# Altium schematic symbol library Inverting buck boost.SchLib: 104 symbols (part 1 of 9)
Pins are listed as number, name and electrical type; pins without a type are passive.

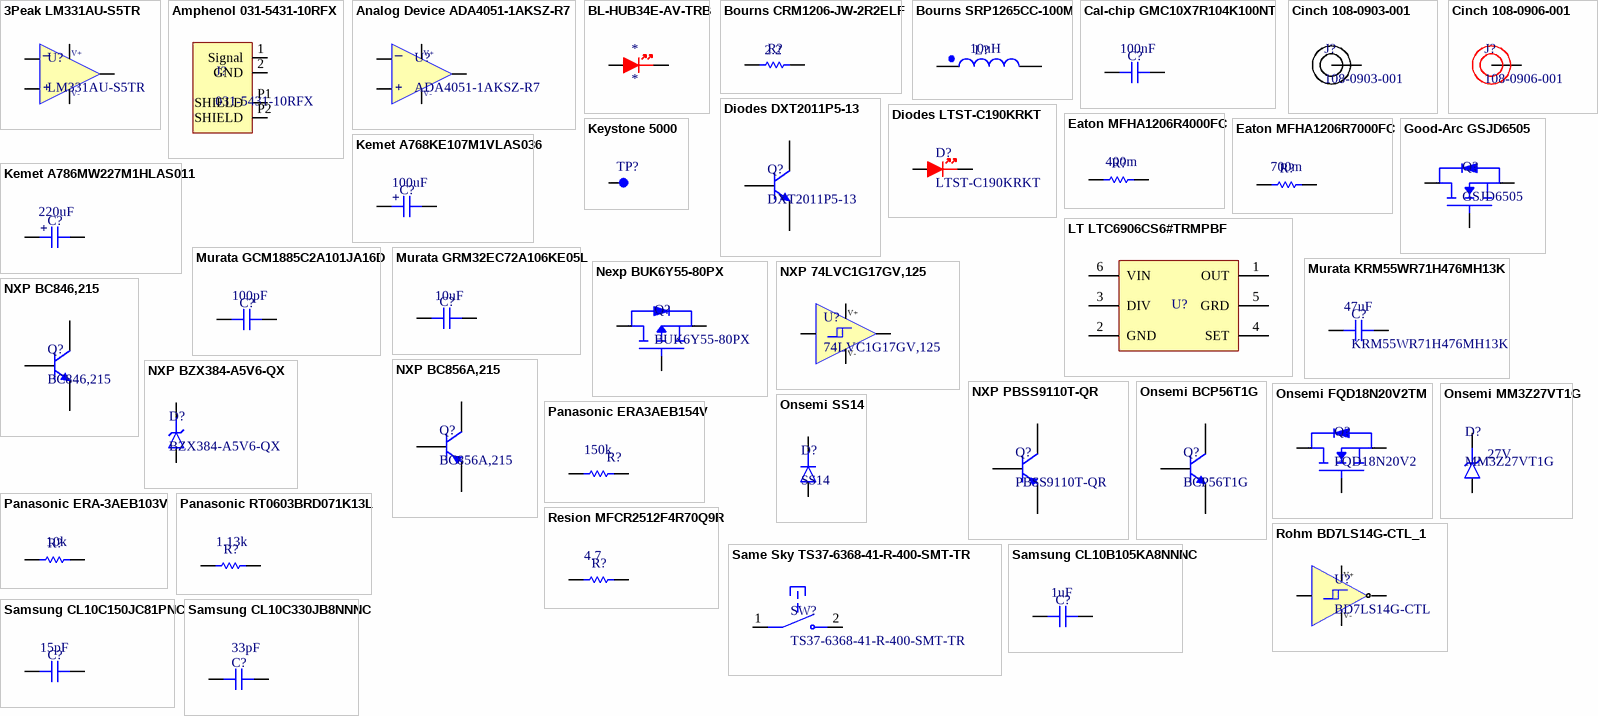
[diagram p0: symbols 3Peak LM331AU-S5TR to Samsung CL10C330JB8NNNC]

## 3Peak LM331AU-S5TR
designator U?, comment LM331AU-S5TR
150¦ÌA 500ns Open Collector, Rail to Rail 20mA 1 2.5V ¡À18V, 36V 6mV@ 5V 4nA@ 5V SOT-23-5 , 2.9mm; Manufacturer: 3Peak; Input Bias Current: 1nA; Input Offset Voltage (Vos): 6mV; Max Supply Current: 300µA; Max Supply Voltage: 42V; Number of Circuits: 1; Response Time: 2µs; Supplier: DigiKey; Supplier Part Number: 5503-LM331AU-S5TRCT-ND; Manufacturer Part Number: LM331AU-S5TR; RoHS: Compliant; Category: Amplifiers - Op Amps, Buffer, Instrumentation; Stock: 2199; Pricing: 1=0,1, 10=0,069, 25=0,06, 100=0,0505, 250=0,04588, 500=0,0431, 1000=0,04081 (USD); Case/Package: LSSOP; Export Control Classification Number (ECCN) Code: EAR99; Height - Seated (Max): 1.25mm; Harmonized Tariff Schedule (HTS) Code: 8542.39.00.60; Length: 2.92mm; Max Operating Temperature: 125°C; Min Operating Temperature: -40°C; Number of Terminals: 5; Operating Supply Voltage: 5V; REACH SVHC: Yes; Terminal Pitch: 950µm; Width: 1.61mm; ComponentLink1URL: https://datasheet.octopart.com:443/LM331AU-S5TR-3Peak-datasheet-182190405.pdf?src-supplier=IHS; ComponentLink1Description: https://datasheet.octopart.com:443/LM331AU-S5TR-3Peak-datasheet-182190405.pdf?src-supplier=IHS
footprint 5-Lead SOT-23
pins: 1 IN-, 2 V-, 3 IN+, 4 OUT, 5 V+
text: _; +

## Amphenol 031-5431-10RFX
designator J?, comment 031-5431-10RFX
RF BNC Connector, Female, Panel Mount, Board And Panel Mount, Solder Terminal, Jack; Manufacturer: Amphenol RF; Body Material: Zinc; Body Plating: Nickel; Connector Type: Receptacle; Dielectric Material: Polypropylene; Frequency: 4GHz; Impedance: 50Ω; Insertion Loss (dB): 0.2dB; Clock Frequency: 1GHz; Polarity: Standard; Voltage Rating: 500V; Supplier: RS; Supplier Part Number: 1440890; Manufacturer Part Number: 031-5431-10RFX; RoHS: Compliant; Category: RF / Coaxial Connectors; Stock: 106; Pricing: 2=3,93, 20=3,77, 40=3,46, 100=3,145, 200=2,985 (EUR); Contact Material: Bronze, Copper; Contact Plating: Gold; Export Control Classification Number (ECCN) Code: EAR99; Fastening Type: Bayonet; Gender: Female; Housing Color: White; Harmonized Tariff Schedule (HTS) Code: 8536.69.40.10; Introduction Date: 2000-11-01; Lifecycle Status: Production; Max Operating Temperature: 85°C; Min Operating Temperature: -55°C; Mounting Technology: Bulkhead, PCB, Panel, Through Hole; Orientation: Right Angle; Plating: Nickel; Radiation Hardening: No; REACH SVHC: Unknown; Schedule B: 8536695050, 8536695050|8536695050, 8536695050|8536695050|8536695050, 8536695050|8536695050|8536695050|8536695050; Termination: Solder; ComponentLink1URL: https://datasheet.octopart.com:443/031-5431-10RFX-Amphenol-RF-datasheet-178912673.pdf?src-supplier=Amphenol+RF; ComponentLink1Description: https://datasheet.octopart.com:443/031-5431-10RFX-Amphenol-RF-datasheet-178912673.pdf?src-supplier=Amphenol+RF; ComponentLink2URL: https://datasheet.octopart.com:443/031-5431-10RFX-Amphenol-RF-datasheet-69052.pdf?src-supplier=RS+(Formerly+Allied+Electronics); ComponentLink2Description: https://datasheet.octopart.com:443/031-5431-10RFX-Amphenol-RF-datasheet-69052.pdf?src-supplier=RS+(Formerly+Allied+Electronics); ComponentLink3URL: https://datasheet.octopart.com:443/031-5431-10RFX-Amphenol-RF-datasheet-120229763.pdf?src-supplier=TME; ComponentLink3Description: https://datasheet.octopart.com:443/031-5431-10RFX-Amphenol-RF-datasheet-120229763.pdf?src-supplier=TME; ComponentLink4URL: https://datasheet.octopart.com:443/31-5431-10RFX-Amphenol-datasheet-110605730.pdf?src-supplier=IHS; ComponentLink4Description: https://datasheet.octopart.com:443/31-5431-10RFX-Amphenol-datasheet-110605730.pdf?src-supplier=IHS; ComponentLink5URL: https://datasheet.octopart.com:443/031-5431-10RFX-Amphenol-RF-datasheet-14873985.pdf?src-supplier=Electro+Sonic; ComponentLink5Description: https://datasheet.octopart.com:443/031-5431-10RFX-Amphenol-RF-datasheet-14873985.pdf?src-supplier=Electro+Sonic; ComponentLink6URL: https://datasheet.octopart.com:443/031-5431-10RFX-Amphenol-RF-datasheet-11551920.pdf?src-supplier=Electro+Sonic; ComponentLink6Description: https://datasheet.octopart.com:443/031-5431-10RFX-Amphenol-RF-datasheet-11551920.pdf?src-supplier=Electro+Sonic; ComponentLink7URL: https://datasheet.octopart.com:443/031-5431-10RFX-Amphenol-RF-datasheet-10025382.pdf?src-supplier=Newark; ComponentLink7Description: https://datasheet.octopart.com:443/031-5431-10RFX-Amphenol-RF-datasheet-10025382.pdf?src-supplier=Newark; ComponentLink8URL: https://datasheet.octopart.com:443/031-5431-10RFX-Amphenol-RF-datasheet-181430700.pdf?src-supplier=JRH+Electronics; ComponentLink8Description: https://datasheet.octopart.com:443/031-5431-10RFX-Amphenol-RF-datasheet-181430700.pdf?src-supplier=JRH+Electronics; ComponentLink9URL: https://datasheet.octopart.com:443/031-5431-10RFX.-Amphenol-RF-datasheet-5334842.pdf?src-supplier=element14+APAC; ComponentLink9Description: https://datasheet.octopart.com:443/031-5431-10RFX.-Amphenol-RF-datasheet-5334842.pdf?src-supplier=element14+APAC
footprint 031-5431-10RFX BNC
pins: 1 Signal, 2 GND, P1 SHIELD, P2 SHIELD

## Analog Device ADA4051-1AKSZ-R7
designator U?, comment ADA4051-1AKSZ-R7
Op Amp Single Micropower Amplifier R-R I/O 5.5V 5-Pin SC-70 T/R; Manufacturer: Analog Devices; Manufacturer Lifecycle Status: PRODUCTION; Bandwidth: 125kHz; Common Mode Rejection Ratio: 135dB; Input Bias Current: 20pA; Input Capacitance: 5pF; Input Offset Voltage (Vos): 17µV; Min Supply Voltage: 1.8V; Number of Amplifiers: 1; Operating Supply Current: 15µA; Output Current per Channel: 15mA; Settling Time: 110µs; Slew Rate: 0.06V/µs; Supplier: Farnell; Supplier Part Number: ADA4051-1AKSZ-R7; Manufacturer Part Number: ADA4051-1AKSZ-R7; RoHS: Compliant; Category: Amplifiers - Op Amps, Buffer, Instrumentation; Stock: 2998; Pricing: 1=2,64, 10=1,99, 25=1,82, 100=1,64, 250=1,55, 500=1,51 (GBP); Case/Package: SC; Contact Plating: Gold; Gain Bandwidth Product: 125kHz; Lead Free: Contains Lead; Lifecycle Status: Production; Max Operating Temperature: 125°C; Max Supply Voltage: 5.5V; Min Operating Temperature: -40°C; Number of Channels: 1; Number of Circuits: 1; Number of Elements: 1; Pins: 5; Power Supply Rejection Ratio (PSRR): 135dB; Quiescent Current: 15µA; Radiation Hardening: No; REACH SVHC: No; Schedule B: 8542330000, 8542330000|8542330000|8542330000|8542330000|8542330000; Voltage Gain: 135dB; ComponentLink1URL: https://datasheet.octopart.com:443/ADA4051-1AKSZ-R7-Analog-Devices-datasheet-8791794.pdf?src-supplier=Upverter; ComponentLink1Description: https://datasheet.octopart.com:443/ADA4051-1AKSZ-R7-Analog-Devices-datasheet-8791794.pdf?src-supplier=Upverter; ComponentLink2URL: https://octopart.com:443/opatz8j6/c1?t=rJJSgKe-ixBsgHruP_dMyvdcYWh8VxYktSnzxyfwgHDbKLKC92zca7cigscwZEaM0lo2HiNT3MH3wQ-2LX-M9Az7IcjdZjIeVxf5AT0hvHfOIPgFhdUnJF0J1I10w6WCzRwC901KpDeY74zyeRPGvO5LAbMw0CobDR2CsodOcFkNt9MQH1-RFuewA9IsU1jv6IjapC8nD5KlUayfNQf8mV_EJh40J36P7WJ_ySqdKCrG-lzOgQPC2h9lNvby1AUvUdXqNeCc0od4Gope5gYX_VswtoiygC4NIFcVhX65H1SStPGZ_82TzO4o&src-supplier=Analog+Devices; ComponentLink2Description: https://octopart.com:443/opatz8j6/c1?t=rJJSgKe-ixBsgHruP_dMyvdcYWh8VxYktSnzxyfwgHDbKLKC92zca7cigscwZEaM0lo2HiNT3MH3wQ-2LX-M9Az7IcjdZjIeVxf5AT0hvHfOIPgFhdUnJF0J1I10w6WCzRwC901KpDeY74zyeRPGvO5LAbMw0CobDR2CsodOcFkNt9MQH1-RFuewA9IsU1jv6IjapC8nD5KlUayfNQf8mV_EJh40J36P7WJ_ySqdKCrG-lzOgQPC2h9lNvby1AUvUdXqNeCc0od4Gope5gYX_VswtoiygC4NIFcVhX65H1SStPGZ_82TzO4o&src-supplier=Analog+Devices; ComponentLink3URL: https://datasheet.octopart.com:443/ADA4051-1AKSZ-R7-Analog-Devices-datasheet-10548184.pdf?src-supplier=Analog+Devices; ComponentLink3Description: https://datasheet.octopart.com:443/ADA4051-1AKSZ-R7-Analog-Devices-datasheet-10548184.pdf?src-supplier=Analog+Devices; ComponentLink4URL: https://datasheet.octopart.com:443/ADA4051-1AKSZ-R7-Analog-Devices-datasheet-62284931.pdf?src-supplier=Augswan; ComponentLink4Description: https://datasheet.octopart.com:443/ADA4051-1AKSZ-R7-Analog-Devices-datasheet-62284931.pdf?src-supplier=Augswan; ComponentLink5URL: https://datasheet.octopart.com:443/ADA4051-1AKSZ-R7-Analog-Devices-datasheet-165826941.pdf?src-supplier=element14+APAC; ComponentLink5Description: https://datasheet.octopart.com:443/ADA4051-1AKSZ-R7-Analog-Devices-datasheet-165826941.pdf?src-supplier=element14+APAC; ComponentLink6URL: http://sigma.octopart.com:80/conflict_mineral_statement/Analog-Devices-company-33.pdf?src-supplier=Compliance+Statements; ComponentLink6Description: http://sigma.octopart.com:80/conflict_mineral_statement/Analog-Devices-company-33.pdf?src-supplier=Compliance+Statements; ComponentLink7URL: https://octopart.com:443/opatz8j6/c1?t=0GX_hfKgSMIsbNrE8b34QJAb0CCNZ6_ezWHTaaiZJR_aWRrHXcXZK1igBECXO0xCZYVK5GrASg4C3zYQqAJSviM5nON9Ij1twWqpeXzFcwgJ4LC7jixMVPYygbP3XV2mr0ayiR9F56Bbj5JLA-7nmjt3c8viBDnSCKzac_WhTH3deLBC3ZmpMauG607RU4KYk36P2kmz-5XzFW-Eu3BtbhjKoDF2JZMeJ3TmcpbQkdN-83rE9pioA5eI-Um-4VwgjZtxOMdpSRa48wH-6RAMWxbPWrNxxsdm-7adIByWP0Rbww03xyshOf5b&src-supplier=Compliance+Statements; ComponentLink7Description: https://octopart.com:443/opatz8j6/c1?t=0GX_hfKgSMIsbNrE8b34QJAb0CCNZ6_ezWHTaaiZJR_aWRrHXcXZK1igBECXO0xCZYVK5GrASg4C3zYQqAJSviM5nON9Ij1twWqpeXzFcwgJ4LC7jixMVPYygbP3XV2mr0ayiR9F56Bbj5JLA-7nmjt3c8viBDnSCKzac_WhTH3deLBC3ZmpMauG607RU4KYk36P2kmz-5XzFW-Eu3BtbhjKoDF2JZMeJ3TmcpbQkdN-83rE9pioA5eI-Um-4VwgjZtxOMdpSRa48wH-6RAMWxbPWrNxxsdm-7adIByWP0Rbww03xyshOf5b&src-supplier=Compliance+Statements
footprint 5-Lead SOT-23
pins: 1 IN-, 2 V-, 3 IN+, 4 OUT, 5 V+
text: _; +

## BL-HUB34E-AV-TRB
designator *
Single Color LED, Super Red, Water Clear, 1.7mm; Manufacturer: American Bright; Manufacturer Part Number: BL-HUB34E-AV-TRB; Forward Current: 20mA; Forward Voltage: 2.6V; Luminous Intensity: 28mcd; Number of Circuits: 1; Peak Wavelength: 645nm; Reverse Voltage: 5V; Shape: Rectangular; Viewing Angle: 130°; Supplier: DigiKey; Supplier Part Number: BL-HUB34E-AV-TRBTR-ND; Category: LEDs; Stock: 24000; Pricing: 3000=0,06676, 6000=0,06227, 9000=0,05996, 15000=0,05736, 21000=0,0558 (USD); Height: 1mm; Harmonized Tariff Schedule (HTS) Code: 8541.40.20.00; Introduction Date: 2012-02-13; Max Operating Temperature: 85°C; Min Operating Temperature: -40°C; Mounting Technology: Surface Mount; Number of Terminals: 2; Terminal Pitch: 1.8mm; ComponentLink1URL: https://datasheet.octopart.com:443/BL-HUB34E-AV-TRB-American-Bright-Optoelectronics-datasheet-182236931.pdf?src-supplier=IHS; ComponentLink1Description: https://datasheet.octopart.com:443/BL-HUB34E-AV-TRB-American-Bright-Optoelectronics-datasheet-182236931.pdf?src-supplier=IHS; ComponentLink2URL: https://datasheet.octopart.com:443/BL-HUB34E-AV-TRB-American-Bright-Optoelectronics-datasheet-155823570.pdf?src-supplier=Electro+Sonic; ComponentLink2Description: https://datasheet.octopart.com:443/BL-HUB34E-AV-TRB-American-Bright-Optoelectronics-datasheet-155823570.pdf?src-supplier=Electro+Sonic
pins: A, K

## Bourns CRM1206-JW-2R2ELF
designator R?, comment Resistance: 2.2  (hidden comment: CRM1206-JW-2R2ELF)
Res Thick Film 1206 2.2 Ohm 5% 0.5W(1/2W) ±200ppm/C Pad SMD T/R; Manufacturer: Bourns; Max Power Dissipation: 500mW; Temperature Coefficient: 200ppm/°C; Voltage Rating: 200V; Supplier: RS; Supplier Part Number: 630160; Manufacturer Part Number: CRM1206-JW-2R2ELF; RoHS: Compliant; Category: Chip SMD Resistors; Stock: 9920; Pricing: 20=0,049, 500=0,042, 2000=0,032, 10000=0,028, 20000=0,021 (EUR); Case/Package: 1206; Case Code (Imperial): 1206; Case Code (Metric): 3216; China RoHS: Non-Compliant; Composition: Thick Film; Country of Origin: Taiwan; Depth: 1.6mm; Export Control Classification Number (ECCN) Code: EAR99; Height: 550µm; Harmonized Tariff Schedule (HTS) Code: 8533.21.00.30; Introduction Date: 2011-02-17; Length: 3.1mm; Lifecycle Status: Production; Max Operating Temperature: 155°C; Military Standard: Not; Min Operating Temperature: -55°C; Mounting Technology: Surface Mount; Pins: 2; Number of Terminals: 2; Number of Terminations: 2; Packaging: Cut Tape; Power Rating: 500mW; REACH SVHC: Yes; Schedule B: 8533210045, 8533210045|8533210045, 8533210045|8533210045|8533210045, 8533210045|8533210045|8533210045|8533210045; Tolerance: 5%; Voltage Rating (DC): 200V; Width: 1.6mm; Working Voltage: 200V; ComponentLink1URL: https://datasheet.octopart.com:443/CRM1206-JW-2R2ELF-Bourns-datasheet-182141858.pdf?src-supplier=Master+Electronics; ComponentLink1Description: https://datasheet.octopart.com:443/CRM1206-JW-2R2ELF-Bourns-datasheet-182141858.pdf?src-supplier=Master+Electronics; ComponentLink2URL: https://datasheet.octopart.com:443/CRM1206-JW-2R2ELF-Bourns-datasheet-164353756.pdf?src-supplier=JRH+Electronics; ComponentLink2Description: https://datasheet.octopart.com:443/CRM1206-JW-2R2ELF-Bourns-datasheet-164353756.pdf?src-supplier=JRH+Electronics; ComponentLink3URL: https://datasheet.octopart.com:443/CRM1206-JW-2R2ELF-Bourns-datasheet-97424573.pdf?src-supplier=Burklin+Elektronik; ComponentLink3Description: https://datasheet.octopart.com:443/CRM1206-JW-2R2ELF-Bourns-datasheet-97424573.pdf?src-supplier=Burklin+Elektronik; ComponentLink4URL: https://datasheet.octopart.com:443/CRM1206-JW-2R2ELF-Bourns-datasheet-154729671.pdf?src-supplier=Electro+Sonic; ComponentLink4Description: https://datasheet.octopart.com:443/CRM1206-JW-2R2ELF-Bourns-datasheet-154729671.pdf?src-supplier=Electro+Sonic; ComponentLink5URL: https://datasheet.octopart.com:443/CRM1206-JW-2R2ELF-Bourns-datasheet-10026694.pdf?src-supplier=element14; ComponentLink5Description: https://datasheet.octopart.com:443/CRM1206-JW-2R2ELF-Bourns-datasheet-10026694.pdf?src-supplier=element14; ComponentLink6URL: https://datasheet.octopart.com:443/CRM1206-JW-2R2ELF-Bourns-datasheet-33021211.pdf?src-supplier=Newark; ComponentLink6Description: https://datasheet.octopart.com:443/CRM1206-JW-2R2ELF-Bourns-datasheet-33021211.pdf?src-supplier=Newark; ComponentLink7URL: https://datasheet.octopart.com:443/CRM1206-JW-2R2ELF-Bourns-datasheet-27379021.pdf?src-supplier=Newark; ComponentLink7Description: https://datasheet.octopart.com:443/CRM1206-JW-2R2ELF-Bourns-datasheet-27379021.pdf?src-supplier=Newark; ComponentLink8URL: https://datasheet.octopart.com:443/CRM1206-JW-2R2ELF-Bourns-datasheet-21196278.pdf?src-supplier=Newark; ComponentLink8Description: https://datasheet.octopart.com:443/CRM1206-JW-2R2ELF-Bourns-datasheet-21196278.pdf?src-supplier=Newark; ComponentLink9URL: http://sigma.octopart.com:80/conflict_mineral_statement/Bourns-company-36.pdf?src-supplier=Compliance+Statements; ComponentLink9Description: http://sigma.octopart.com:80/conflict_mineral_statement/Bourns-company-36.pdf?src-supplier=Compliance+Statements
footprint res_1206
pins: 1, 2

## Bourns SRP1265CC-100M
designator L?, comment Inductance: 10uH  (hidden comment: SRP1265CC-100M)
Inductor Power Shielded Wirewound 10uH 20% 100KHz 20Q-FactorCarbonyl Powder 12A 0.018Ohm DCR T/R; Manufacturer: Bourns; DC Resistance (DCR): 18mΩ; Number of Circuits: 1; Q Factor: 20; Self Resonant Frequency: 10MHz; Supplier: Arrow Electronics; Supplier Part Number: SRP1265CC-100M; Manufacturer Part Number: SRP1265CC-100M; RoHS: Compliant; Category: Fixed Inductors; Stock: 5; Pricing: 1=0,7639 (USD); Core Material: Carbonyl Powder; Export Control Classification Number (ECCN) Code: EAR99; Height: 6.2mm; Harmonized Tariff Schedule (HTS) Code: 8504.50.80.00; Introduction Date: 2023-07-18; Length: 13.5mm; Lifecycle Status: Production; Max Current Rating: 12A; Max Operating Temperature: 125°C; Min Operating Temperature: -40°C; Number of Terminals: 2; REACH SVHC: Yes; Shielding: Shielded; Test Frequency: 100kHz; Tolerance: 20%; Width: 12.5mm; ComponentLink1URL: https://datasheet.octopart.com:443/SRP1265CC-100M-Bourns-datasheet-179984565.pdf?src-supplier=IHS; ComponentLink1Description: https://datasheet.octopart.com:443/SRP1265CC-100M-Bourns-datasheet-179984565.pdf?src-supplier=IHS; ComponentLink2URL: http://sigma.octopart.com:80/conflict_mineral_statement/Bourns-company-36.pdf?src-supplier=Compliance+Statements; ComponentLink2Description: http://sigma.octopart.com:80/conflict_mineral_statement/Bourns-company-36.pdf?src-supplier=Compliance+Statements
footprint INDPM135125X650N
pins: 1, 2

## Cal-chip GMC10X7R104K100NT
designator C?, comment Capacitance: 100nF  (hidden comment: GMC10X7R104K100NT)
100V 100nF X7R ±10% 0603 Multilayer Ceramic Capacitors MLCC - SMD/SMT ROHS; Manufacturer: Cal-Chip Electronics; Supplier: DigiKey; Supplier Part Number: 4713-GMC10X7R104K100NTCT-ND; Manufacturer Part Number: GMC10X7R104K100NT; RoHS: Compliant; Category: Ceramic Capacitors; Stock: 34767; Pricing: 1=0,1, 10=0,045, 50=0,0306, 100=0,0262, 500=0,01902, 1000=0,0168 (USD); Case/Package: 0603; China RoHS: Compliant; Dielectric Material: Ceramic; Height: 950µm; Length: 1.6mm; Lifecycle Status: Production; Max Operating Temperature: 125°C; Min Operating Temperature: -55°C; Mounting Technology: Surface Mount; Number of Terminals: 2; REACH SVHC: Yes; Voltage Rating (DC): 100V; Width: 800µm; ComponentLink1URL: https://datasheet.octopart.com:443/GMC10X7R104K100NT-Cal-Chip-Electronics-datasheet-182028815.pdf?src-supplier=IHS; ComponentLink1Description: https://datasheet.octopart.com:443/GMC10X7R104K100NT-Cal-Chip-Electronics-datasheet-182028815.pdf?src-supplier=IHS
footprint cap_0603
pins: 1, 2

## Cinch 108-0903-001
designator J?, comment 108-0903-001
Banana Test Connector, 4mm, Jack, Panel Mount, 15 A, 7 kV, Tin Plated Contacts, Black; Manufacturer: Cinch Connectivity Solutions; Approvals: UL; Body Material: Brass, Nylon, Polyamide; Current Rating: 15A; Gender: Female; Insulation: Mating End Insulated; Number of Contacts: 1; Voltage Rating: 3.5kV; Voltage Rating (DC): 7kV; Wire/Cable Gauge: 12AWG; Supplier: RS; Supplier Part Number: 8860910; Manufacturer Part Number: 108-0903-001; RoHS: Compliant; Category: Connectors; Stock: 5600; Pricing: 50=0,928, 500=0,742, 1000=0,699 (EUR); Color: Black; Contact Material: Tin; Contact Plating: Tin; Country of Origin: USA; Export Control Classification Number (ECCN) Code: EAR99; Insulation Material: Nylon; Lead Free: Lead Free; Length: 23.83mm; Lifecycle Status: Production; Max Current Rating: 15A; Max Operating Temperature: 85°C; Min Operating Temperature: -55°C; Mounting Technology: Panel; Orientation: Straight; Packaging: Bulk; Radiation Hardening: No; REACH SVHC: No; Termination: Solder; ComponentLink1URL: https://datasheet.octopart.com:443/108-0903-001-Cinch-Connectivity-Solutions-datasheet-128871933.pdf?src-supplier=JRH+Electronics; ComponentLink1Description: https://datasheet.octopart.com:443/108-0903-001-Cinch-Connectivity-Solutions-datasheet-128871933.pdf?src-supplier=JRH+Electronics; ComponentLink2URL: https://datasheet.octopart.com:443/108-0903-001-Cinch-Connectors-datasheet-38159153.pdf?src-supplier=element14+APAC; ComponentLink2Description: https://datasheet.octopart.com:443/108-0903-001-Cinch-Connectors-datasheet-38159153.pdf?src-supplier=element14+APAC; ComponentLink3URL: https://datasheet.octopart.com:443/108-0903-001-Cinch-Connectivity-Solutions-datasheet-180501184.pdf?src-supplier=IHS; ComponentLink3Description: https://datasheet.octopart.com:443/108-0903-001-Cinch-Connectivity-Solutions-datasheet-180501184.pdf?src-supplier=IHS; ComponentLink4URL: https://datasheet.octopart.com:443/108-0903-001-Emerson-Network-Power-datasheet-82039.pdf?src-supplier=element14; ComponentLink4Description: https://datasheet.octopart.com:443/108-0903-001-Emerson-Network-Power-datasheet-82039.pdf?src-supplier=element14; ComponentLink5URL: https://datasheet.octopart.com:443/108-0903-001-Cinch-Connectors-datasheet-13701575.pdf?src-supplier=_legacy+Avnet; ComponentLink5Description: https://datasheet.octopart.com:443/108-0903-001-Cinch-Connectors-datasheet-13701575.pdf?src-supplier=_legacy+Avnet; ComponentLink6URL: https://datasheet.octopart.com:443/108-0903-001-Cinch-Connectors-datasheet-9780463.pdf?src-supplier=RS+(Formerly+Allied+Electronics); ComponentLink6Description: https://datasheet.octopart.com:443/108-0903-001-Cinch-Connectors-datasheet-9780463.pdf?src-supplier=RS+(Formerly+Allied+Electronics); ComponentLink7URL: https://datasheet.octopart.com:443/108-0903-001-Emerson-Network-Power-datasheet-8828422.pdf?src-supplier=Farnell; ComponentLink7Description: https://datasheet.octopart.com:443/108-0903-001-Emerson-Network-Power-datasheet-8828422.pdf?src-supplier=Farnell; ComponentLink8URL: https://datasheet.octopart.com:443/108-0903-001-Emerson-Network-Power-datasheet-10031126.pdf?src-supplier=Farnell; ComponentLink8Description: https://datasheet.octopart.com:443/108-0903-001-Emerson-Network-Power-datasheet-10031126.pdf?src-supplier=Farnell; ComponentLink9URL: https://datasheet.octopart.com:443/108-0903-001-Emerson-Network-Power-datasheet-47159.pdf?src-supplier=Farnell; ComponentLink9Description: https://datasheet.octopart.com:443/108-0903-001-Emerson-Network-Power-datasheet-47159.pdf?src-supplier=Farnell; ComponentLink10URL: https://datasheet.octopart.com:443/108-0903-001-Emerson-Network-Power-datasheet-40124.pdf?src-supplier=Farnell; ComponentLink10Description: https://datasheet.octopart.com:443/108-0903-001-Emerson-Network-Power-datasheet-40124.pdf?src-supplier=Farnell; ComponentLink11URL: https://datasheet.octopart.com:443/108-0903-001-Emerson-Network-Power-datasheet-29036.pdf?src-supplier=Farnell; ComponentLink11Description: https://datasheet.octopart.com:443/108-0903-001-Emerson-Network-Power-datasheet-29036.pdf?src-supplier=Farnell
footprint Black Banana connector Solder terminal
pins: 1

## Cinch 108-0906-001
designator J?, comment 108-0906-001
Right-angle Dual Port D-Sub Connector; Manufacturer: Cinch Connectivity Solutions; Approvals: UL; Body Material: Brass, Nylon, Polyamide; Current Rating: 15A; Gender: Female; Insulation: Mating End Insulated; Number of Contacts: 1; Voltage Rating: 3.5kV; Voltage Rating (DC): 7kV; Wire/Cable Gauge: 12AWG; Supplier: Avnet; Supplier Part Number: 39F1578; Manufacturer Part Number: 108-0906-001; RoHS: Compliant; Category: Connectors; Stock: 6182; Pricing: 1=1,33, 10=1,13, 50=1,03, 100=0,961, 250=0,9, 500=0,857, 1000=0,816 (USD); Case/Package: 0906; Color: Orange; Contact Material: Brass; Contact Plating: Tin; Export Control Classification Number (ECCN) Code: EAR99; Insulation Material: Nylon; Lead Free: Lead Free; Length: 23.83mm; Lifecycle Status: Production; Max Current Rating: 15A; Max Operating Temperature: 85°C; Min Operating Temperature: -55°C; Mounting Technology: Panel; Orientation: Straight; Packaging: Bulk; Radiation Hardening: No; REACH SVHC: No; Termination: Solder; ComponentLink1URL: https://datasheet.octopart.com:443/108-0906-001-Cinch-Connectors-datasheet-87927859.pdf?src-supplier=element14+APAC; ComponentLink1Description: https://datasheet.octopart.com:443/108-0906-001-Cinch-Connectors-datasheet-87927859.pdf?src-supplier=element14+APAC; ComponentLink2URL: https://datasheet.octopart.com:443/108-0906-001-Cinch-Connectors-datasheet-26078.pdf?src-supplier=element14+APAC; ComponentLink2Description: https://datasheet.octopart.com:443/108-0906-001-Cinch-Connectors-datasheet-26078.pdf?src-supplier=element14+APAC; ComponentLink3URL: https://datasheet.octopart.com:443/108-0906-001-Cinch-Connectivity-Solutions-datasheet-180501184.pdf?src-supplier=IHS; ComponentLink3Description: https://datasheet.octopart.com:443/108-0906-001-Cinch-Connectivity-Solutions-datasheet-180501184.pdf?src-supplier=IHS; ComponentLink4URL: https://datasheet.octopart.com:443/108-0906-001-Cinch-Connectors-datasheet-13703871.pdf?src-supplier=_legacy+Avnet; ComponentLink4Description: https://datasheet.octopart.com:443/108-0906-001-Cinch-Connectors-datasheet-13703871.pdf?src-supplier=_legacy+Avnet; ComponentLink5URL: https://datasheet.octopart.com:443/108-0906-001-Cinch-Connectivity-Solutions-datasheet-128871933.pdf?src-supplier=RS+(Formerly+Allied+Electronics); ComponentLink5Description: https://datasheet.octopart.com:443/108-0906-001-Cinch-Connectivity-Solutions-datasheet-128871933.pdf?src-supplier=RS+(Formerly+Allied+Electronics); ComponentLink6URL: https://datasheet.octopart.com:443/108-0906-001-Cinch-Connectors-datasheet-10014739.pdf?src-supplier=RS+(Formerly+Allied+Electronics); ComponentLink6Description: https://datasheet.octopart.com:443/108-0906-001-Cinch-Connectors-datasheet-10014739.pdf?src-supplier=RS+(Formerly+Allied+Electronics); ComponentLink7URL: https://datasheet.octopart.com:443/108-0906-001-Emerson-Network-Power-datasheet-16473276.pdf?src-supplier=Farnell; ComponentLink7Description: https://datasheet.octopart.com:443/108-0906-001-Emerson-Network-Power-datasheet-16473276.pdf?src-supplier=Farnell
footprint Black Banana connector Solder terminal
pins: 1

## Diodes DXT2011P5-13
designator Q?, comment DXT2011P5-13
Small Signal Bipolar Transistor, 6A I(C), 100V V(BR)CEO, 1-Element, NPN, Silicon, TO-252; Manufacturer: Diodes Inc.; Manufacturer Package Identifier: POWERDI-5; Collector Base Voltage (VCBO): 200V; Collector Emitter Saturation Voltage: 220mV; Element Configuration: Single; Emitter Base Voltage (VEBO): 7V; Frequency: 130MHz; hFE Min: 10; Max Power Dissipation: 3.2W; Number of Elements: 1; Supplier: DigiKey; Supplier Part Number: DXT2011P5-13CT-ND; Manufacturer Part Number: DXT2011P5-13; RoHS: Compliant; Category: BJTs; Stock: 7192; Pricing: 1=1,13, 10=0,708, 100=0,4634, 500=0,35816, 1000=0,32424, 2000=0,29569 (USD); China RoHS: Compliant; Collector Emitter Breakdown Voltage: 100V; Collector Emitter Voltage (VCEO): 100V; Continuous Collector Current: 6A; Gain Bandwidth Product: 130MHz; Height: 1.15mm; Length: 4.05mm; Lifecycle Status: Production; Max Breakdown Voltage: 100V; Max Collector Current: 6A; Clock Frequency: 130MHz; Max Operating Temperature: 150°C; Min Operating Temperature: -55°C; Mounting Technology: Surface Mount; Number of Terminals: 3; Packaging: Cut Tape; Polarity: NPN; Power Dissipation: 3.2W; REACH SVHC: Yes; Transition Frequency: 130MHz; Weight: 95.991485mg; Width: 5.45mm; ComponentLink1URL: https://datasheet.octopart.com:443/DXT2011P5-13-Diodes-Inc.-datasheet-41192511.pdf?src-supplier=IHS; ComponentLink1Description: https://datasheet.octopart.com:443/DXT2011P5-13-Diodes-Inc.-datasheet-41192511.pdf?src-supplier=IHS; ComponentLink2URL: https://datasheet.octopart.com:443/DXT2011P5-13-Diodes-Inc.-datasheet-8829229.pdf?src-supplier=element14+APAC; ComponentLink2Description: https://datasheet.octopart.com:443/DXT2011P5-13-Diodes-Inc.-datasheet-8829229.pdf?src-supplier=element14+APAC; ComponentLink3URL: https://sigma.octopart.com:443/138896286/technical_drawing/Diodes-Inc.-DXT2011P5-13.pdf?src-supplier=Diodes+Inc+SCT; ComponentLink3Description: https://sigma.octopart.com:443/138896286/technical_drawing/Diodes-Inc.-DXT2011P5-13.pdf?src-supplier=Diodes+Inc+SCT; ComponentLink4URL: http://sigma.octopart.com:80/15540767/rohs_statement/Diodes-Inc.-DXT2011P5-13.pdf?src-supplier=Compliance+Statements; ComponentLink4Description: http://sigma.octopart.com:80/15540767/rohs_statement/Diodes-Inc.-DXT2011P5-13.pdf?src-supplier=Compliance+Statements
footprint POWERDI5
pins: 1 B, 2 E, 3 C

## Diodes LTST-C190KRKT
designator D?, comment LTST-C190KRKT
LED red 0603 wavelength 631nm light intensity 18~180mcd Front Mounting; Manufacturer: Diodes Inc.; Value: 100µF; Forward Current: 25mA; Forward Voltage: 2.4V; Lens Color: Clear, Colorless; Lens Style: Clear; Luminous Intensity: 18mcd; Number of Circuits: 1; Peak Wavelength: 639nm; Power Dissipation: 62.5mW; Power Rating: 75mW; Reverse Voltage: 5V; Shape: Rectangular; Test Current: 20mA; Tolerance: 20%; Viewing Angle: 260°; Voltage Rating: 50V; Supplier: Future Electronics; Supplier Part Number: LTST-C190KRKT; Manufacturer Part Number: LTST-C190KRKT; RoHS: Compliant; Category: LEDs; Stock: 1792000; Pricing: 4000=0,0161, 16000=0,0156, 40000=0,0153, 100000=0,0151, 160000=0,0146 (USD); Case/Package: 0603; Case Code (Imperial): 0603; Case Code (Metric): 1608; China RoHS: Compliant; Color: Red; Country of Origin: Mainland China; Depth: 800µm; Diameter: 8mm; Dominant Wavelength: 631nm; Export Control Classification Number (ECCN) Code: EAR99; Height: 800µm; Harmonized Tariff Schedule (HTS) Code: 8541.40.20.00; Illumination Color: Red; Introduction Date: 2000-01-01; Lead Free: Lead Free; Lead Pitch: 3.5mm; Length: 11.5mm; Lens Transparency: Clear; Lifecycle Status: Production; Max Operating Temperature: 85°C; Min Operating Temperature: -30°C; Mounting Technology: Surface Mount; Number of Elements: 1; Number of LEDs: 1; Pins: 2; Number of Terminals: 2; Packaging: Bulk; Radiation Hardening: No; REACH SVHC: Yes; Schedule B: 8541402000, 8541402000|8541402000, 8541402000|8541402000|8541402000, 8541402000|8541402000|8541402000|8541402000; Voltage Rating (DC): 50V; Wavelength: 631nm; Width: 800µm; ComponentLink1URL: https://datasheet.octopart.com:443/LTST-C190KRKT-Lite-On-datasheet-32047000.pdf?src-supplier=Upverter; ComponentLink1Description: https://datasheet.octopart.com:443/LTST-C190KRKT-Lite-On-datasheet-32047000.pdf?src-supplier=Upverter; ComponentLink2URL: https://datasheet.octopart.com:443/LTST-C190KRKT-Lite-On-datasheet-114749306.pdf?src-supplier=ODG+(Origin+Data+Global); ComponentLink2Description: https://datasheet.octopart.com:443/LTST-C190KRKT-Lite-On-datasheet-114749306.pdf?src-supplier=ODG+(Origin+Data+Global); ComponentLink3URL: https://datasheet.octopart.com:443/LTST-C190KRKT-Lite-On-datasheet-166650849.pdf?src-supplier=IHS; ComponentLink3Description: https://datasheet.octopart.com:443/LTST-C190KRKT-Lite-On-datasheet-166650849.pdf?src-supplier=IHS; ComponentLink4URL: https://datasheet.octopart.com:443/LTST-C190KRKT-Lite-On-datasheet-158191.pdf?src-supplier=_legacy+Avnet; ComponentLink4Description: https://datasheet.octopart.com:443/LTST-C190KRKT-Lite-On-datasheet-158191.pdf?src-supplier=_legacy+Avnet; ComponentLink5URL: https://datasheet.octopart.com:443/LTST-C190KRKT-Lite-On-datasheet-165573809.pdf?src-supplier=TME; ComponentLink5Description: https://datasheet.octopart.com:443/LTST-C190KRKT-Lite-On-datasheet-165573809.pdf?src-supplier=TME; ComponentLink6URL: https://datasheet.octopart.com:443/LTST-C190KRKT-Lite-On-datasheet-165573808.pdf?src-supplier=TME; ComponentLink6Description: https://datasheet.octopart.com:443/LTST-C190KRKT-Lite-On-datasheet-165573808.pdf?src-supplier=TME; ComponentLink7URL: https://datasheet.octopart.com:443/LTST-C190KRKT-Lite-On-datasheet-12557188.pdf?src-supplier=Future+Electronics; ComponentLink7Description: https://datasheet.octopart.com:443/LTST-C190KRKT-Lite-On-datasheet-12557188.pdf?src-supplier=Future+Electronics; ComponentLink8URL: https://datasheet.octopart.com:443/LTST-C190KRKT-Lite-On-datasheet-8329900.pdf?src-supplier=Future+Electronics; ComponentLink8Description: https://datasheet.octopart.com:443/LTST-C190KRKT-Lite-On-datasheet-8329900.pdf?src-supplier=Future+Electronics; ComponentLink9URL: https://datasheet.octopart.com:443/LTST-C190KRKT-Lite-On-datasheet-8319956.pdf?src-supplier=Jameco; ComponentLink9Description: https://datasheet.octopart.com:443/LTST-C190KRKT-Lite-On-datasheet-8319956.pdf?src-supplier=Jameco; ComponentLink10URL: https://datasheet.octopart.com:443/LTST-C190KRKT-Lite-On-datasheet-94958.pdf?src-supplier=DigiKey; ComponentLink10Description: https://datasheet.octopart.com:443/LTST-C190KRKT-Lite-On-datasheet-94958.pdf?src-supplier=DigiKey
footprint LED
pins: A, K

## Eaton MFHA1206R4000FC
designator R?, comment Resistance: 400m  (hidden comment: MFHA1206R4000FC)
Res Metal Film 1206 0.4 Ohm 1% 1W ±100ppm/C Pad SMD T/R Automotive AEC-Q200; Manufacturer: Eaton; Temperature Coefficient: 100ppm/°C; Working Voltage: 632.5mV; Supplier: Future Electronics; Supplier Part Number: MFHA1206R4000FC; Manufacturer Part Number: MFHA1206R4000FC; RoHS: Compliant; Category: Chip SMD Resistors; Stock: 5000; Pricing: 5000=0,0475, 10000=0,0467, 15000=0,0463, 20000=0,0459, 25000=0,0449 (USD); Case/Package: 1206; Composition: Metal Film; Export Control Classification Number (ECCN) Code: EAR99; Height: 550µm; Harmonized Tariff Schedule (HTS) Code: 8533.21.00.30; Introduction Date: 2022-08-04; Length: 3.2mm; Lifecycle Status: Production; Max Operating Temperature: 155°C; Min Operating Temperature: -55°C; Mounting Technology: Surface Mount; Number of Terminals: 2; Power Rating: 1W; Ratings: AEC-Q200; REACH SVHC: Yes; Tolerance: 1%; Width: 1.6mm; ComponentLink1URL: https://datasheet.octopart.com:443/MFHA1206R4000FC-Cooper-Bussmann-datasheet-182142309.pdf?src-supplier=IHS; ComponentLink1Description: https://datasheet.octopart.com:443/MFHA1206R4000FC-Cooper-Bussmann-datasheet-182142309.pdf?src-supplier=IHS
footprint res_1206
pins: 1, 2

## Eaton MFHA1206R7000FC
designator R?, comment Resistance: 700m  (hidden comment: MFHA1206R7000FC)
Fixed Resistor, Metal Film, 1W, 0.7ohm, 0.8367V, 1% +/-Tol, 100ppm/Cel, Surface Mount, 1206; Manufacturer: Eaton; Temperature Coefficient: 100ppm/°C; Working Voltage: 836.7mV; Supplier: Farnell; Supplier Part Number: MFHA1206R7000FC; Manufacturer Part Number: MFHA1206R7000FC; RoHS: Compliant; Category: Chip SMD Resistors; Stock: 6975; Pricing: 10=0,124, 100=0,0821, 500=0,0649, 1000=0,0581, 2500=0,0535, 5000=0,0489 (GBP); Case/Package: 1206; Composition: Metal Film; Export Control Classification Number (ECCN) Code: EAR99; Height: 550µm; Harmonized Tariff Schedule (HTS) Code: 8533.21.00.30; Introduction Date: 2022-08-04; Length: 3.2mm; Lifecycle Status: Production; Max Operating Temperature: 155°C; Min Operating Temperature: -55°C; Mounting Technology: Surface Mount; Number of Terminals: 2; Ratings: AEC-Q200; REACH SVHC: Yes; Tolerance: 1%; Width: 1.6mm; ComponentLink1URL: https://datasheet.octopart.com:443/MFHA1206R7000FC-Cooper-Bussmann-datasheet-182142309.pdf?src-supplier=IHS; ComponentLink1Description: https://datasheet.octopart.com:443/MFHA1206R7000FC-Cooper-Bussmann-datasheet-182142309.pdf?src-supplier=IHS; Power Rating: 1W
footprint res_1206
pins: 1, 2

## Good-Arc GSJD6505
designator Q?, comment GSJD6505
MOSFET, N-Ch, Single, 5A, 650V, TO-252 (DPAK); Manufacturer: Good-Ark; Supplier: DigiKey; Supplier Part Number: 4786-GSJD6505CT-ND; Manufacturer Part Number: GSJD6505; Category: MOSFETs; Stock: 2466; Pricing: 1=0,79, 10=0,566, 25=0,5092, 100=0,4462, 250=0,41624, 500=0,39818, 1000=0,3833 (USD)
footprint TO-252  (DPAK) (1N65M5 STM)
pins: 1 G, 2 D, 3 S

## Kemet A768KE107M1VLAS036
designator C?, comment Capacitance: 100uF  (hidden comment: A768KE107M1VLAS036)
Cap Aluminum Polymer 100uF 35V 20% Solder Cylindrical 36m Ohm 1400mA 2000 hr 125°C T/R; Manufacturer: Yageo Group; ESR (Equivalent Series Resistance): 36mΩ; Leakage Current: 700µA; Ripple Current: 70mA; Supplier: Farnell; Supplier Part Number: A768KE107M1VLAS036; Manufacturer Part Number: A768KE107M1VLAS036; RoHS: Compliant; Category: Aluminum Electrolytic Capacitors; Stock: 9487; Pricing: 100=0,325, 500=0,275, 1000=0,238, 2000=0,233, 4000=0,228 (EUR); Case/Package: 3333; Height: 6.7mm; Length: 8.3mm; Lifecycle Status: Production; Max Operating Temperature: 125°C; Min Operating Temperature: -55°C; Mounting Technology: Surface Mount; Number of Terminals: 2; Ratings: AEC-Q200; REACH SVHC: Yes; Voltage Rating (DC): 35V; Width: 8.3mm; ComponentLink1URL: https://datasheet.octopart.com:443/A768KE107M1VLAS036-KEMET-datasheet-182036773.pdf?src-supplier=IHS; ComponentLink1Description: https://datasheet.octopart.com:443/A768KE107M1VLAS036-KEMET-datasheet-182036773.pdf?src-supplier=IHS; ComponentLink2URL: https://datasheet.octopart.com:443/A768KE107M1VLAS036-KEMET-datasheet-176144382.pdf?src-supplier=Newark; ComponentLink2Description: https://datasheet.octopart.com:443/A768KE107M1VLAS036-KEMET-datasheet-176144382.pdf?src-supplier=Newark; ComponentLink3URL: https://datasheet.octopart.com:443/A768KE107M1VLAS036-KEMET-datasheet-188938854.pdf?src-supplier=TME; ComponentLink3Description: https://datasheet.octopart.com:443/A768KE107M1VLAS036-KEMET-datasheet-188938854.pdf?src-supplier=TME; ComponentLink4URL: https://datasheet.octopart.com:443/A768KE107M1VLAS036-KEMET-datasheet-188904066.pdf?src-supplier=TME; ComponentLink4Description: https://datasheet.octopart.com:443/A768KE107M1VLAS036-KEMET-datasheet-188904066.pdf?src-supplier=TME
footprint CAP_AP_SMD_D8MM6.7
pins: 1, 2
text: +

## Kemet A786MW227M1HLAS011
designator C?, comment Capacitance: 220uF  (hidden comment: A786MW227M1HLAS011)
Cap, Alu Elec, Hybrid, 220Uf, 50V, Smd Rohs Compliant: Yes |Kemet A786MW227M1HLAS011; Manufacturer: Yageo Group; ESR (Equivalent Series Resistance): 11mΩ; Leakage Current: 110µA; Ripple Current: 924mA; Supplier: DigiKey; Supplier Part Number: 399-A786MW227M1HLAS011TR-ND; Manufacturer Part Number: A786MW227M1HLAS011; Category: Aluminum Electrolytic Capacitors; Stock: 1490; Pricing: 250=0,60712, 500=0,5608, 750=0,53743, 1250=0,51136, 1750=0,49604, 2500=0,48124 (USD); Diameter: 10mm; Export Control Classification Number (ECCN) Code: EAR99; Height: 16.5mm; Harmonized Tariff Schedule (HTS) Code: 8532.22.00.20; Introduction Date: 2025-03-11; Length: 10.3mm; Lifecycle Status: Production; Max Operating Temperature: 135°C; Min Operating Temperature: -55°C; Mounting Technology: Surface Mount; Number of Terminals: 2; Ratings: AEC-Q200; Voltage Rating (DC): 50V; Width: 10.3mm; ComponentLink1URL: https://datasheet.octopart.com:443/A786MW227M1HLAS011-KEMET-datasheet-188909869.pdf?src-supplier=Newark; ComponentLink1Description: https://datasheet.octopart.com:443/A786MW227M1HLAS011-KEMET-datasheet-188909869.pdf?src-supplier=Newark; ComponentLink2URL: https://datasheet.octopart.com:443/A786MW227M1HLAS011-KEMET-datasheet-192653909.pdf?src-supplier=Newark; ComponentLink2Description: https://datasheet.octopart.com:443/A786MW227M1HLAS011-KEMET-datasheet-192653909.pdf?src-supplier=Newark
footprint CAP_POL_10×16.5
pins: 1, 2
text: +

## Keystone 5000
designator TP?, comment 5000  (value not drawn)
Cable Wrap, 1/2 Inch, Polyethylene, Natural, 50 Ft, Spirap Series | TE Connectivity 500002-1; Manufacturer: Keystone; Body Material: Bronze, PBT; Hole Diameter: 1.6mm; Inside Diameter: 1.27mm; Insulation: Insulated; Number of Contacts: 1; Outside Diameter: 2.54mm; Plating: Silver; Supplier: Future Electronics; Supplier Part Number: 5000; Manufacturer Part Number: 5000; RoHS: Compliant; Category: Test Points; Stock: 278803; Pricing: 200=0,0998, 500=0,0974, 1500=0,0947, 3000=0,093, 10000=0,088 (USD); Color: Red; Contact Material: Silver; Contact Plating: Silver; Flammability Rating: UL94 V-0; Height: 4.72mm; Housing Color: Red; Lead Free: Lead Free; Length: 7.62mm; Lifecycle Status: Production; Material: Bronze, Nylon, Silver; Mounting Technology: PCB, Through Hole; Number of Ports: 1; Orientation: Straight; Packaging: Bulk; REACH SVHC: Yes; ComponentLink1URL: https://datasheet.octopart.com:443/5000-Keystone-datasheet-138896739.pdf?src-supplier=Upverter; ComponentLink1Description: https://datasheet.octopart.com:443/5000-Keystone-datasheet-138896739.pdf?src-supplier=Upverter; ComponentLink2URL: https://datasheet.octopart.com:443/5000-Keystone-datasheet-15716159.pdf?src-supplier=IHS; ComponentLink2Description: https://datasheet.octopart.com:443/5000-Keystone-datasheet-15716159.pdf?src-supplier=IHS; ComponentLink3URL: https://datasheet.octopart.com:443/5000-Keystone-datasheet-9590016.pdf?src-supplier=Sager+Electronics; ComponentLink3Description: https://datasheet.octopart.com:443/5000-Keystone-datasheet-9590016.pdf?src-supplier=Sager+Electronics; ComponentLink4URL: https://datasheet.octopart.com:443/5000-Keystone-datasheet-23674.pdf?src-supplier=SOS+electronic; ComponentLink4Description: https://datasheet.octopart.com:443/5000-Keystone-datasheet-23674.pdf?src-supplier=SOS+electronic; ComponentLink5URL: https://datasheet.octopart.com:443/5000-Keystone-datasheet-549598.pdf?src-supplier=Farnell; ComponentLink5Description: https://datasheet.octopart.com:443/5000-Keystone-datasheet-549598.pdf?src-supplier=Farnell; ComponentLink6URL: https://datasheet.octopart.com:443/5000-Keystone-datasheet-60278094.pdf?src-supplier=Future+Electronics; ComponentLink6Description: https://datasheet.octopart.com:443/5000-Keystone-datasheet-60278094.pdf?src-supplier=Future+Electronics; ComponentLink7URL: https://datasheet.octopart.com:443/5000-Keystone-datasheet-542585.pdf?src-supplier=Future+Electronics; ComponentLink7Description: https://datasheet.octopart.com:443/5000-Keystone-datasheet-542585.pdf?src-supplier=Future+Electronics; ComponentLink8URL: https://datasheet.octopart.com:443/5000-Keystone-datasheet-10925273.pdf?src-supplier=Factory+Futures; ComponentLink8Description: https://datasheet.octopart.com:443/5000-Keystone-datasheet-10925273.pdf?src-supplier=Factory+Futures; ComponentLink9URL: https://datasheet.octopart.com:443/5000-Keystone-datasheet-15983577.pdf?src-supplier=element14+APAC; ComponentLink9Description: https://datasheet.octopart.com:443/5000-Keystone-datasheet-15983577.pdf?src-supplier=element14+APAC; ComponentLink10URL: https://datasheet.octopart.com:443/5000-Keystone-datasheet-6528.pdf?src-supplier=RS+(Formerly+Allied+Electronics); ComponentLink10Description: https://datasheet.octopart.com:443/5000-Keystone-datasheet-6528.pdf?src-supplier=RS+(Formerly+Allied+Electronics)
footprint TH TP
pins: 1

## LT LTC6906CS6#TRMPBF
designator U?, comment LTC6906CS6#TRMPBF  (value not drawn)
Silicon Oscillator 0.01MHz to 1MHz CMOS Automotive 6-Pin TSOT-23 Tape and Reel; Manufacturer: Analog Devices; Manufacturer Lifecycle Status: PRODUCTION; Frequency Stability: 300ppm; Frequency Tolerance: 2.2%; Max Supply Voltage: 5.5V; Min Supply Voltage: 2.25V; Operating Supply Current: 78µA; Supplier: Farnell; Supplier Part Number: LTC6906CS6#TRMPBF; Manufacturer Part Number: LTC6906CS6#TRMPBF; RoHS: Compliant; Category: Oscillators; Stock: 356; Pricing: 1=3,36, 10=2,78, 25=2,56, 100=2,32, 250=2,21, 500=2,13 (GBP); Case/Package: TSOT; Depth: 1.75mm; Frequency: 1MHz; Height: 900µm; Lead Free: Lead Free; Length: 2.9mm; Lifecycle Status: Production; Max Operating Temperature: 70°C; Min Operating Temperature: 0°C; Mounting Technology: Surface Mount; Pins: 6; Packaging: Cut Tape; Radiation Hardening: No; REACH SVHC: No; Schedule B: 8542390000, 8542390000|8542390000, 8542390000|8542390000|8542390000, 8542390000|8542390000|8542390000|8542390000; Termination: SMD/SMT; Width: 1.5mm; ComponentLink1URL: https://octopart.com:443/opatz8j6/c1?t=5shEcAoDsy_XxBf8-3cQVwQ-JvjDtMMTIk6rGVaBNgmvbeSoX7vtHjRf0MJrdEAFbgpJTSVEO870sKztRY-aBtnamZdVHG-oMueyTG1OlPZtxRJw4_FPB7Xvszx5gmi7j8LkgxkWjBXGie93SmNZGKdNBD_RwhpypTiyzJIBXT4xQs2d2-W7384-WSsaE-WzT5hUJcMPsf97nd3Il2B6xOlBl4DdmV-mm7fCR3Uv3xQ2oKLk-iwNWKrEg-nSez1F6NtQ2_yz7Ixqw3X5WDviEApaeU2x0KBfkGZ6NuNmvPVQun559A8TaUg&src-supplier=Analog+Devices; ComponentLink1Description: https://octopart.com:443/opatz8j6/c1?t=5shEcAoDsy_XxBf8-3cQVwQ-JvjDtMMTIk6rGVaBNgmvbeSoX7vtHjRf0MJrdEAFbgpJTSVEO870sKztRY-aBtnamZdVHG-oMueyTG1OlPZtxRJw4_FPB7Xvszx5gmi7j8LkgxkWjBXGie93SmNZGKdNBD_RwhpypTiyzJIBXT4xQs2d2-W7384-WSsaE-WzT5hUJcMPsf97nd3Il2B6xOlBl4DdmV-mm7fCR3Uv3xQ2oKLk-iwNWKrEg-nSez1F6NtQ2_yz7Ixqw3X5WDviEApaeU2x0KBfkGZ6NuNmvPVQun559A8TaUg&src-supplier=Analog+Devices; ComponentLink2URL: https://datasheet.octopart.com:443/LTC6906CS6%23TRMPBF-Analog-Devices-datasheet-16887856.pdf?src-supplier=Farnell; ComponentLink2Description: https://datasheet.octopart.com:443/LTC6906CS6%23TRMPBF-Analog-Devices-datasheet-16887856.pdf?src-supplier=Farnell; ComponentLink3URL: https://datasheet.octopart.com:443/LTC6906CS6%23TRMPBF-Linear-Technology-datasheet-620052.pdf?src-supplier=Farnell; ComponentLink3Description: https://datasheet.octopart.com:443/LTC6906CS6%23TRMPBF-Linear-Technology-datasheet-620052.pdf?src-supplier=Farnell; ComponentLink4URL: https://datasheet.octopart.com:443/LTC6906CS6%23TRMPBF-Linear-Technology-datasheet-10379881.pdf?src-supplier=Farnell; ComponentLink4Description: https://datasheet.octopart.com:443/LTC6906CS6%23TRMPBF-Linear-Technology-datasheet-10379881.pdf?src-supplier=Farnell; ComponentLink5URL: https://datasheet.octopart.com:443/LTC6906CS6%23TRMPBF-Analog-Devices-datasheet-155467709.pdf?src-supplier=element14+APAC; ComponentLink5Description: https://datasheet.octopart.com:443/LTC6906CS6%23TRMPBF-Analog-Devices-datasheet-155467709.pdf?src-supplier=element14+APAC; ComponentLink6URL: https://datasheet.octopart.com:443/LTC6906CS6%23TRMPBF-Linear-Technology-datasheet-11553417.pdf?src-supplier=Arrow+Electronics; ComponentLink6Description: https://datasheet.octopart.com:443/LTC6906CS6%23TRMPBF-Linear-Technology-datasheet-11553417.pdf?src-supplier=Arrow+Electronics; ComponentLink7URL: https://sigma.octopart.com:443/57691988/technical_drawing/Linear-Technology-LTC6906CS6%23TRMPBF.pdf?src-supplier=Linear+Technology; ComponentLink7Description: https://sigma.octopart.com:443/57691988/technical_drawing/Linear-Technology-LTC6906CS6%23TRMPBF.pdf?src-supplier=Linear+Technology; ComponentLink8URL: https://datasheet.octopart.com:443/LTC6906CS6%23TRMPBF-Linear-Technology-datasheet-8734172.pdf?src-supplier=Component+Distributors+Inc.; ComponentLink8Description: https://datasheet.octopart.com:443/LTC6906CS6%23TRMPBF-Linear-Technology-datasheet-8734172.pdf?src-supplier=Component+Distributors+Inc.; ComponentLink9URL: http://sigma.octopart.com:80/conflict_mineral_statement/Analog-Devices-company-33.pdf?src-supplier=Compliance+Statements; ComponentLink9Description: http://sigma.octopart.com:80/conflict_mineral_statement/Analog-Devices-company-33.pdf?src-supplier=Compliance+Statements; ComponentLink10URL: https://octopart.com:443/opatz8j6/c1?t=kH0laXzR-06GbpmgJwOnzW28bDfXahOBYcaV_c1Lxe4y35M1T6GdY0RRdgzHUUas5jleU_Lwsek7-Ov8LHbaQinlI1EkgssJSHM6R79JGr9wdbFlNNYzoX29OegbNfK5YlC5rZp3-IMbMt3ApRLFnqDC_E84-LL2A2By7NY3_RhmFsD-Hd4sM_WMaV7tybSM1xpGNiKAg43RGBp5GXKsG7yNikfwo8iRn1uHUWh5hOpfyrKb8bBnpxGuQL_X5lSy3IkotLSLGoqgJBkSU5KDscC7W5W4knJZLnG3qlhbeV0IwIKm5A5ppAM&src-supplier=Compliance+Statements; ComponentLink10Description: https://octopart.com:443/opatz8j6/c1?t=kH0laXzR-06GbpmgJwOnzW28bDfXahOBYcaV_c1Lxe4y35M1T6GdY0RRdgzHUUas5jleU_Lwsek7-Ov8LHbaQinlI1EkgssJSHM6R79JGr9wdbFlNNYzoX29OegbNfK5YlC5rZp3-IMbMt3ApRLFnqDC_E84-LL2A2By7NY3_RhmFsD-Hd4sM_WMaV7tybSM1xpGNiKAg43RGBp5GXKsG7yNikfwo8iRn1uHUWh5hOpfyrKb8bBnpxGuQL_X5lSy3IkotLSLGoqgJBkSU5KDscC7W5W4knJZLnG3qlhbeV0IwIKm5A5ppAM&src-supplier=Compliance+Statements
footprint sot23-6
pins: 1 OUT, 2 GND, 3 DIV, 4 SET, 5 GRD, 6 VIN